# Altium schematic symbol library Mean Well SCWN03E.SchLib: 1 symbol
Pins are listed as number, name and electrical type; pins without a type are passive.

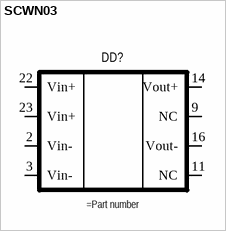
[diagram p0: symbol SCWN03]

## SCWN03
designator DD?
3W DIP Package DC-DC Regulated Converter
pins: 2 Vin-, 3 Vin-, 9 NC, 11 NC, 14 Vout+, 16 Vout-, 22 Vin+, 23 Vin+